# Altium schematic symbol library Light Board.SchLib: 3 symbols
Pins are listed as number, name and electrical type; pins without a type are passive.

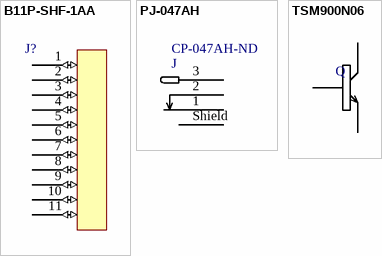
[diagram p0: symbols B11P-SHF-1AA to TSM900N06]

## B11P-SHF-1AA
designator J?
Manufacturer: JST; Manufacturer Part Number: B11P-SHF-1AA(LF)(SN); Description: JST HVQ Series, 2.5mm Pitch 11 Way 1 Row Straight PCB Header, Solder Termination, 3A; Current Rating: 3A; Voltage Rating: 250V; Number of Positions: 11; Connector Type: Male Pin; Pitch: 0.098inch; Supplier 1: Digi-Key; Stock 1: 0; Pricing 1: 250=0.48872 (USD); Mount: Through Hole; Contact Plating: Tin; Contact Material: Brass; Color: Natural; Number of Rows: 1; Packaging: Bulk; Termination: Solder; Fastening Type: Friction; Number of Contacts: 11; Orientation: Straight; Contact Mating Length: 0.236inch; ComponentLink1URL: http://www.jst-mfg.com/product/pdf/eng/eNH.pdf?src-supplier=Digi-Key; ComponentLink1Description: http://www.jst-mfg.com/product/pdf/eng/eNH.pdf?src-supplier=Digi-Key; Supplier Part Number 1: B11P-SHF-1AA(LF)(SN)-ND
footprint B11P-SHF-1AA
pins: 1 (io), 2 (io), 3 (io), 4 (io), 5 (io), 6 (io), 7 (io), 8 (io), 9 (io), 10 (io), 11 (io)

## PJ-047AH
designator J  Supplier Part Number 1: CP-047AH-ND
Manufacturer: CUI; Manufacturer Part Number: PJ-047AH; Description: CONN PWR JACK 2X5.5MM SOLDER; Gender: Male; Shielding: Shielded; Current Rating: 5A; Connector Type: Jack; Voltage Rating: 24V; Insulation Resistance: 100MR; Number of Conductors: 2; Supplier 1: Digi-Key; Stock 1: 6714; Pricing 1: 1=0.8, 10=0.701, 25=0.66, 50=0.6326, 100=0.605, 250=0.55, 500=0.495, 1000=0.44, 2500=0.39875 (USD); Mount: Through Hole; Color: Black; Contact Material: Brass,Copper; Contact Plating: Nickel; Housing Color: Black; Housing Material: Thermoplastic; Min Operating Temperature: -25°C; Max Operating Temperature: 85°C; Package Quantity: 500; Termination: Solder; Contact Gender: Male; Orientation: Horizontal; Flammability Rating: UL94 V-0; Lead Free: Lead Free
footprint PJ-047AH
pins: 1 (power), 2 (power), 3 (power), Shield (power)

## TSM900N06
designator Q
Manufacturer: Taiwan Semiconductor; Manufacturer Part Number: TSM900N06CPROG; Description: MOSFET N-CHANNEL 60V 11A TO252; Supplier 1: Arrow Electronics Inc.; Stock 1: 2500; Pricing 1: 1=0.5174, 10=0.4387, 25=0.4341, 50=0.4294, 100=0.3242, 250=0.3207, 500=0.236, 1000=0.182, 3000=0.1809, 6000=0.179, 15000=0.177, 30000=0.175, 75000=0.1729 (USD); Supplier Part Number 1: TSM900N06CP ROG
footprint TO-252
pins: 1 Gate (power), 2 Drain (power), 3 Source (power)